# Altium schematic symbol library 74HC123D,653.SchLib: 1 symbol
Pins are listed as number, name and electrical type; pins without a type are passive.

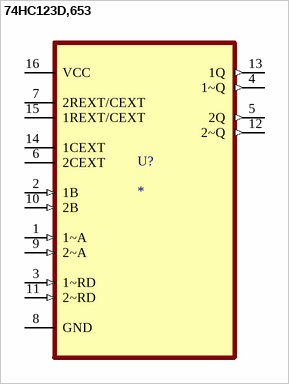
[diagram p0: symbol 74HC123D,653]

## 74HC123D,653
designator U?
Monostable Multivibrator 65ns 16-SO; MF: Nexperia USA; MP: 74HC123D,653; Value: *; Purchase-URL: https://pricing.snapeda.com/search/part/74HC123D,653/?ref=eda; Package: SO16-16 Nexperia USA Inc.; Check_prices: https://www.snapeda.com/parts/74HC123D,653/Nexperia/view-part/2882374/?ref=eda; SnapEDA_Link: https://www.snapeda.com/parts/74HC123D,653/Nexperia/view-part/2882374/?ref=snap; Digi-Key_Part_Number: 1727-2778-1-ND
footprint SOIC127P600X175-16N
pins: 1 1~A (in), 2 1B (in), 3 1~RD (in), 4 1~Q (out), 5 2Q (out), 6 2CEXT, 7 2REXT/CEXT, 8 GND, 9 2~A (in), 10 2B (in), 11 2~RD (in), 12 2~Q (out), 13 1Q (out), 14 1CEXT, 15 1REXT/CEXT, 16 VCC (power)